# Altium footprint library PCB - CONNECTOR - TE - TE 282834-4.PCBLIB: 1 footprints
Each footprint in its own frame and in the unit in brackets; x right, y up, seen from the top. Pads: shape width x height; smd on the part's side, far side on the other; paste and mask are expansions set on the pad; w line width, h text height; cw(c..) or ccw(c..) is an arc to the next point about the centre after c.
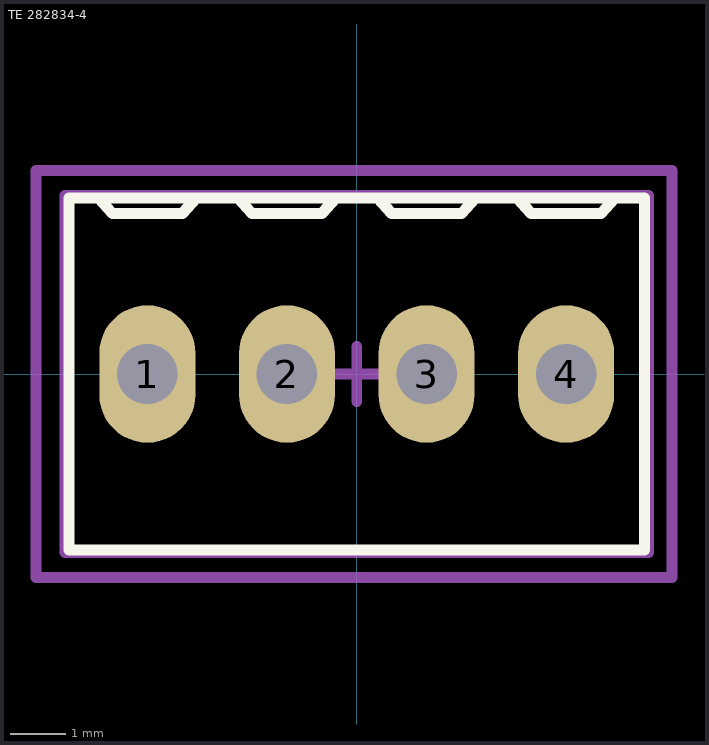
[diagram p0: the footprint, top view; thin cyan lines are the x and y axes]

## TE 282834-4 [mm]
height 10
pads (4):
  oval 1.75x2.5 hole 1.1: 1(-3.81,0) 2(-1.27,0) 3(1.27,0) 4(3.81,0)
Top Overlay:
  lines w0.2: -4.699,3.2 -4.445,2.921 -3.175,2.921 -2.921,3.2 ; -2.159,3.2 -1.905,2.921 -0.635,2.921 -0.381,3.2 ; 0.381,3.2 0.635,2.921 1.905,2.921 2.159,3.2 ; 2.921,3.2 3.175,2.921 4.445,2.921 4.699,3.2 ; -5.24,-3.2 -5.14,-3.2 5.24,-3.2 5.24,3.2 -5.24,3.2 -5.24,-3.2
Mechanical 13:
  lines w0.2: -5.31,-3.25 -5.31,3.25 5.31,3.25 5.31,-3.25 -5.31,-3.25
Mechanical 15:
  lines w0.2: -0.5,0 0.5,0 ; 0,-0.5 0,0.5 ; -5.84,-3.7 5.74,-3.7 5.74,-2.9 5.74,3.7 -5.84,3.7 -5.84,-3.3 -5.84,-3.7
3D body "TE Term Block 4port 282834-4-c-3d.STEP": height 10, standoff -3.4, extent -5.31,-3.25 5.31,3.25